# EAGLE library part CP2102-GM (library CP2102-GM)
IC USB-TO-UART BRIDGE 28VQFN Check prices <https://snapeda.com/parts/CP2102-GM/Silicon%20Labs/view-part/?ref=eda>
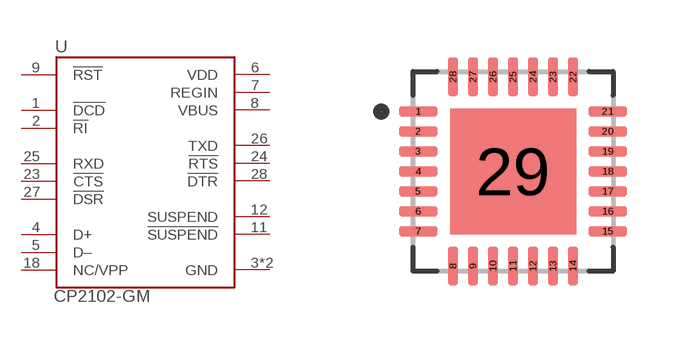
[diagram p0: symbol with the pads of QFN50P500X500X100-29N; footprint QFN50P500X500X100-29N]

Designator prefix U

## CP2102-GM (Availability: Good; Description: USB Bridge, USB to UART USB 2.0 UART Interface 28-QFN (5x5); DigiKey-Purchase-URL: https://snapeda.com/shop?store=DigiKey&id=135876; MF: Silicon Labs; MP: CP2102-GM; Mouser-Purchase-URL: https://snapeda.com/shop?store=Mouser&id=135876; Package: QFN-28 Silicon Labs; Price: None)  [QFN50P500X500X100-29N]
1  !DCD  in
2  !RI  in
3  GND  pwr
4  D+
5  D–
6  VDD  pwr
7  REGIN  pwr
8  VBUS  pwr
9  !RST
11  !SUSPEND  out
12  SUSPEND  out
18  NC/VPP
23  !CTS  in
24  !RTS  out
25  RXD  in
26  TXD  out
27  !DSR  in
28  !DTR  out
29  GND  pwr

## Footprint QFN50P500X500X100-29N (pad centres in mm)
smd 0.97 x 0.26: 1 -2.37,1.5; 2 -2.37,1; 3 -2.37,0.5; 4 -2.37,0; 5 -2.37,-0.5; 6 -2.37,-1; 7 -2.37,-1.5; 15 2.37,-1.5; 16 2.37,-1; 17 2.37,-0.5; 18 2.37,0; 19 2.37,0.5; 20 2.37,1; 21 2.37,1.5
smd 0.26 x 0.97: 8 -1.5,-2.37; 9 -1,-2.37; 10 -0.5,-2.37; 11 0,-2.37; 12 0.5,-2.37; 13 1,-2.37; 14 1.5,-2.37; 22 1.5,2.37; 23 1,2.37; 24 0.5,2.37; 25 0,2.37; 26 -0.5,2.37; 27 -1,2.37; 28 -1.5,2.37
smd 3.15 x 3.15: 29 0,0